# Altium footprint library XCVR_NN02-224.PcbLib: 1 footprints
Each footprint in its own frame and in the unit in brackets; x right, y up, seen from the top. Pads: shape width x height; smd on the part's side, far side on the other; paste and mask are expansions set on the pad; w line width, h text height; cw(c..) or ccw(c..) is an arc to the next point about the centre after c.
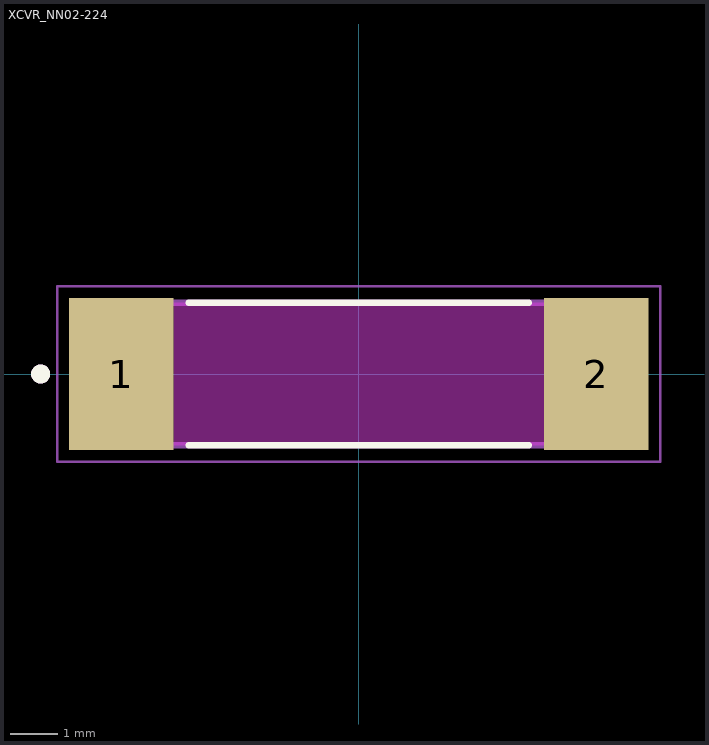
[diagram p0: the footprint, top view; thin cyan lines are the x and y axes]

## XCVR_NN02-224 [mm]
pads (2):
  rect 2.2x3.2 smd: 1(-5,0) 2(5,0)
Top Overlay:
  circle w0.2: c-6.7,0 r0.1
  lines w0.127: -3.587,-1.5 3.587,-1.5 ; -3.587,1.5 3.587,1.5
Keep-Out Layer:
  region: 3.9,-1.5 -3.9,-1.5 -3.9,1.5 3.9,1.5
  region: 3.9,-1.5 -3.9,-1.5 -3.9,1.5 3.9,1.5
Mechanical 13:
  circle w0.2: c-6.7,0 r0.1
  lines w0.127: -6,-1.5 6,-1.5 6,1.5 -6,1.5 -6,-1.5
Mechanical 15:
  lines w0.05: -6.35,-1.85 6.35,-1.85 6.35,1.85 -6.35,1.85 -6.35,-1.85
3D body "step_temp.STEP": height 2.41, standoff 0, extent -6,-1.5 6,1.5